# Altium integrated library 1uF_X7R_low_esr_UMK212AB7105MD-T.IntLib: 1 symbol
Pins are listed as number, name and electrical type; pins without a type are passive.

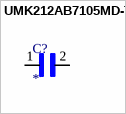
[diagram p0: symbol UMK212AB7105MD-T]

## UMK212AB7105MD-T
designator C?
CAP ,MLCC ,0805,50V ,X7R,1.0UF20% ,T&R; MP: UMK212AB7105MD-T; Package: None; Price: None; Value: *; Availability: Unavailable
footprint CAPC2013X95N
pins: 1, 2